# Altium footprint library PcbLib-Placa-Mae.PcbLib: 12 footprints
Each footprint in its own frame and in the unit in brackets; x right, y up, seen from the top. Pads: shape width x height; smd on the part's side, far side on the other; paste and mask are expansions set on the pad; w line width, h text height; cw(c..) or ccw(c..) is an arc to the next point about the centre after c.
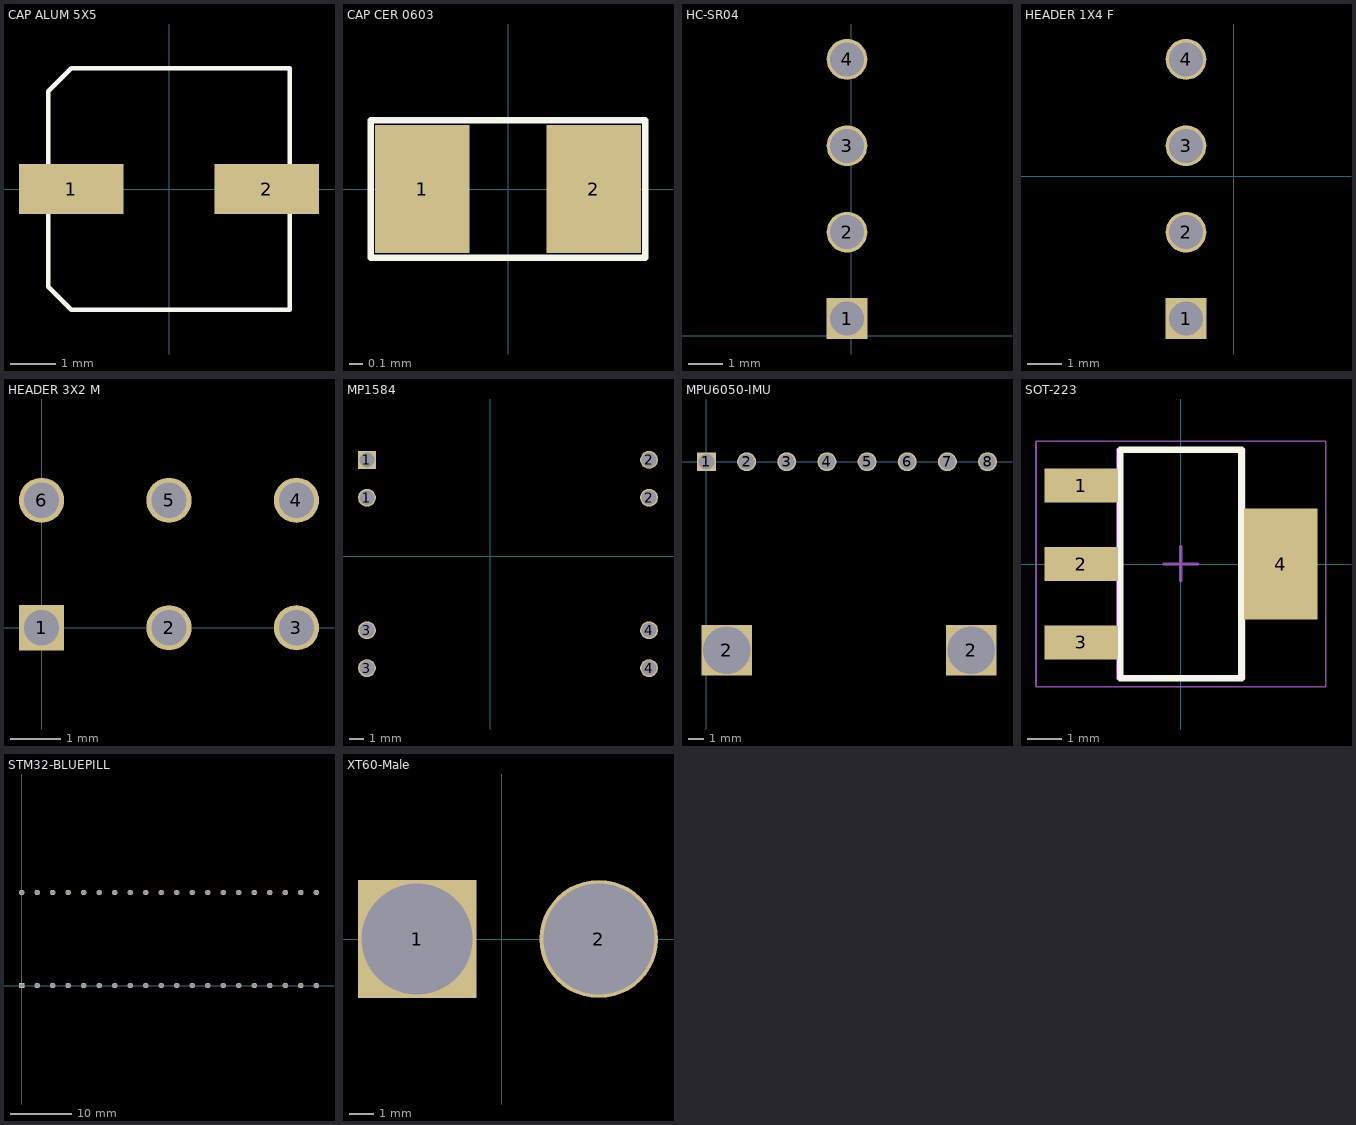
[diagram p0: the footprints below, top view; thin cyan lines are the x and y axes]

## BTS7960 [mm]
3D body "BTS7960_Motor_Driver.STEP": height 44.8, standoff 2.4, extent -24.674,-25.09 26.326,24.71

## CAP ALUM 5X5 [mm]
pads (2):
  rect 2.3x1.1 smd: 1(-2.159,0) 2(2.159,0)
Top Overlay:
  lines w0.1: -2.667,-2.159 -2.159,-2.667 2.667,-2.667 2.667,2.667 -2.159,2.667 -2.667,2.159 -2.667,-2.159
3D body "CAP ALUM 5X5.STEP": height 5.52, standoff -0.4, extent -3.048,-2.667 3.048,2.667

## CAP CER 0603 [mm]
pads (2):
  rect 0.7x0.95 smd: 1(-0.635,0) 2(0.635,0)
Top Overlay:
  lines w0.05: -1.016,-0.508 -1.016,-0.055 -1.016,0.508 1.016,0.508 1.016,-0.508 -1.016,-0.508
3D body "CAP CER 0603.STEP": height 0.9, standoff 0, extent -0.8,-0.4 0.8,0.4

## HC-SR04 [mm]
pads (4):
  rect 1.2x1.2 hole 1: 1(-0.127,0.508)
  round 1.2 hole 1: 2(-0.127,3.048) 3(-0.127,5.588) 4(-0.127,8.128)
3D body "HC-SR04-UltrasonicSensor.step": height 25.24, standoff -0.96, extent -0.38,-18.407 17.41,27.043

## HEADER 1X4 F [mm]
pads (4):
  rect 1.2x1.2 hole 1: 1(-1.397,-4.191)
  round 1.2 hole 1: 2(-1.397,-1.651) 3(-1.397,0.889) 4(-1.397,3.429)
3D body "Header-female_1x4.step": height 8.4, standoff -3.15, extent -2.667,-5.461 -0.167,4.699

## HEADER 1X10 F [mm]
3D body "Header-female_1x10.step": height 4.35, standoff -2.8, extent -5.049,-0.524 8.351,1.286

## HEADER 3X2 M [mm]
pads (6):
  rect 0.9x0.9 hole 0.7: 1(0,0)
  round 0.9 hole 0.7: 2(2.54,0) 3(5.08,0) 4(5.08,2.54) 5(2.54,2.54) 6(0,2.54)
3D body "HEADER 2x3 Pitch 2_54mm.STEP": height 9.2, standoff -3.5, extent -1.27,-1.27 6.35,3.81

## MP1584 [mm]
pads (8):
  round 1.2 hole 1: 1(-8.255,3.937) 2(10.668,3.937) 2(10.668,6.477) 3(-8.255,-7.493) 3(-8.255,-4.953) 4(10.668,-7.493) 4(10.668,-4.953)
  rect 1.2x1.2 hole 1: 1(-8.255,6.477)
3D body "MP1584-Regulador.step": height 14.1, standoff 10.6, extent -9.808,-9.017 12.192,7.983

## MPU6050-IMU [mm]
pads (10):
  rect 1.2x1.2 hole 1: 1(0,0)
  rect 3.2x3.2 hole 3: 2(1.27,-11.938) 2(16.764,-11.938)
  round 1.2 hole 1: 2(2.54,0) 3(5.08,0) 4(7.62,0) 5(10.16,0) 6(12.7,0) 7(15.24,0) 8(17.78,0)
3D body "MPU6050-IMU.STEP": height 10.94, standoff -0.23, extent -1.537,-14.605 19.571,1.27

## SOT-223 [mm]
pads (4):
  rect 2.15x1 smd: 1(-2.925,2.3) 2(-2.925,0) 3(-2.925,-2.3)
  rect 2.15x3.25 smd: 4(2.925,0)
Top Overlay:
  lines w0.2: -1.778,-3.35 1.778,-3.35 1.778,3.35 -1.778,3.35 -1.778,-3.35
Mechanical 13:
  lines w0.1: -1.85,-3.35 1.85,-3.35 1.85,3.35 -1.85,3.35 -1.85,-3.35
Mechanical 15:
  lines w0.05: -4.25,-3.6 4.25,-3.6 4.25,3.6 -4.25,3.6 -4.25,-3.6
  lines w0.1: -0.5,0 0.5,0 ; 0,-0.5 0,0.5
3D body "SOT-223.step": height 1.65, standoff -0.03, extent -3.48,-3.25 3.48,3.25

## STM32-BLUEPILL [mm]
pads (40):
  rect 0.9x0.9 hole 0.7: 1(0,0)
  round 0.9 hole 0.7: 2(2.54,0) 3(5.08,0) 4(7.62,0) 5(10.16,0) 6(12.7,0) 7(15.24,0) 8(17.78,0) 9(20.32,0) 10(22.86,0) 11(25.4,0) 12(27.94,0) 13(30.48,0) 14(33.02,0) 15(35.56,0) 16(38.1,0) 17(40.64,0) 18(43.18,0) 19(45.72,0) 20(48.26,0) 21(48.26,15.24) 22(45.72,15.24) 23(43.18,15.24) 24(40.64,15.24) 25(38.1,15.24) 26(35.56,15.24) 27(33.02,15.24) 28(30.48,15.24) 29(27.94,15.24) 30(25.4,15.24) 31(22.86,15.24) 32(20.32,15.24) 33(17.78,15.24) 34(15.24,15.24) 35(12.7,15.24) 36(10.16,15.24) 37(7.62,15.24) 38(5.08,15.24) 39(2.54,15.24) 40(0,15.24)
3D body "STM32F103C8T6_Blue_Pill v6.step": height 14.85, standoff -3.42, extent -5.842,-3.81 51.718,19.05

## XT60-Male [mm]
pads (2):
  rect 4.8x4.8 hole 4.5: 1(-3.429,0)
  round 4.8 hole 4.5: 2(3.937,0)
3D body "XT60 male.step": height 16.2, standoff -5, extent -7.95,-4.086 7.95,4.064